# EAGLE library part A6H-04 (library switch-dil)
DIP SWITCH
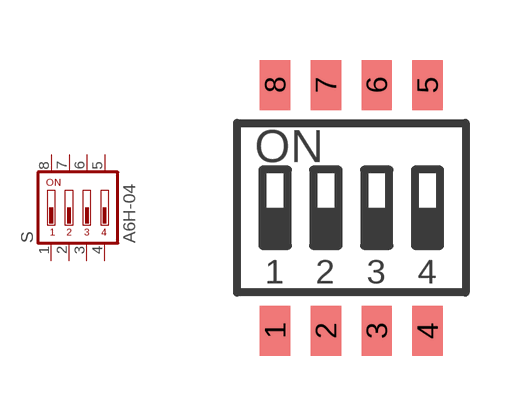
[diagram p73: symbol with the pads of A6H-04; footprint A6H-04]

Designator prefix S

## A6H-04  [A6H-04]
1  1  pas
2  2  pas
3  3  pas
4  4  pas
5  5  pas
6  6  pas
7  7  pas
8  8  pas

## Footprint A6H-04 (pad centres in mm)
DIP SWITCH Omron A6H Series
smd 0.76 x 1.25: 1 -1.905,-3.075; 2 -0.635,-3.075; 3 0.635,-3.075; 4 1.905,-3.075; 5 1.905,3.075; 6 0.635,3.075; 7 -0.635,3.075; 8 -1.905,3.075